# Altium footprint library Oscillators.PcbLib: 1 footprints
Each footprint in its own frame and in the unit in brackets; x right, y up, seen from the top. Pads: shape width x height; smd on the part's side, far side on the other; paste and mask are expansions set on the pad; w line width, h text height; cw(c..) or ccw(c..) is an arc to the next point about the centre after c.
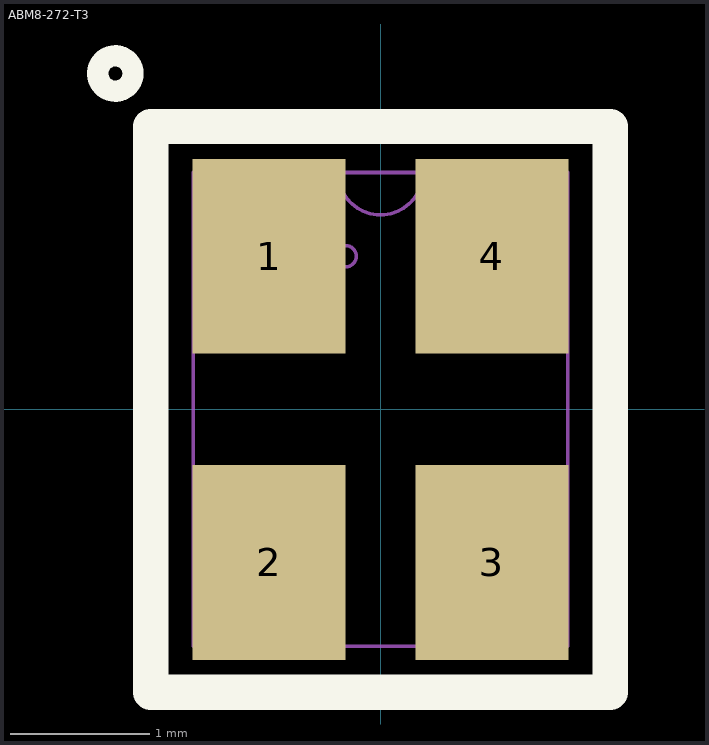
[diagram p0: the footprint, top view; thin cyan lines are the x and y axes]

## ABM8-272-T3 [mm] "CRYSTAL 12.0000MHZ 10PF SMD"
pads (4):
  rect 1.1x1.4 smd paste+0 mask+0.05: 1(-0.8,1.1) 2(-0.8,-1.1) 3(0.8,-1.1) 4(0.8,1.1)
Top Overlay:
  circle w0.152: c-1.905,2.413 r0.127
  lines w0.254: -1.651,-2.032 1.651,-2.032 1.651,2.032 -1.651,2.032 -1.651,-2.032
Mechanical 1:
  text ".Designator" at 0.1,0.323 h0.67
Mechanical 13:
  circle w0.025: c-0.25,1.1 r0.076
  lines w0.025: -0.305,1.702 ccw(c0,1.702) 0.305,1.702 ; -1.346,-1.702 1.346,-1.702 1.346,1.702 -1.346,1.702 -1.346,-1.702
3D body "ABM8-272-T3_ABR.step": height 0.76, standoff 0, extent -1.346,-1.702 1.346,1.702